# EAGLE library part ADA4505-2 (library COMPONENTS_LIB)
Op Amp (2)
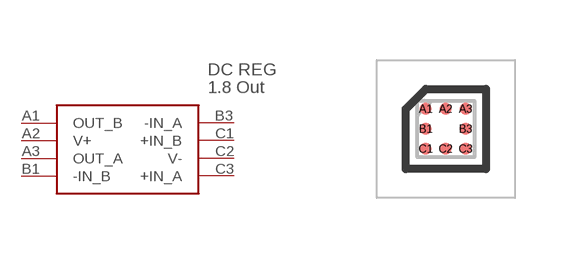
[diagram p0: symbol with the pads of BGA8C50P3X3_142X142X65; footprint BGA8C50P3X3_142X142X65]

Designator prefix IC

## ADA4505-2 (DESCRIPTION: ANALOG DEVICES - ADA4505-2ACBZ-R7 - OP-AMP, DUAL, 50KHZ, WLCSP-8; HEIGHT: 0.65mm; MANUFACTURER_NAME: Analog Devices; MANUFACTURER_PART_NUMBER: ADA4505-2ACBZ-R7; MOUSER_PART_NUMBER: 584-ADA4505-2ACBZ-R7; MOUSER_PRICE-STOCK: https://www.mouser.co.uk/ProductDetail/Analog-Devices/ADA4505-2ACBZ-R7?qs=BpaRKvA4VqEsLtXU3NSLDQ%3D%3D)  [BGA8C50P3X3_142X142X65]
A1  OUT_B
A2  V+
A3  OUT_A
B1  -IN_B
B3  -IN_A
C1  +IN_B
C2  V-
C3  +IN_A

## Footprint BGA8C50P3X3_142X142X65 (pad centres in mm)
DC Reg-1.8output
smd 0.306 x 0.306: A1 -0.5,0.5; A2 0,0.5; A3 0.5,0.5; B1 -0.5,0; B3 0.5,0; C1 -0.5,-0.5; C2 0,-0.5; C3 0.5,-0.5